# Altium integrated library Capacitors - Ceramic - 0402.IntLib: 4569 symbols (part 34 of 100)
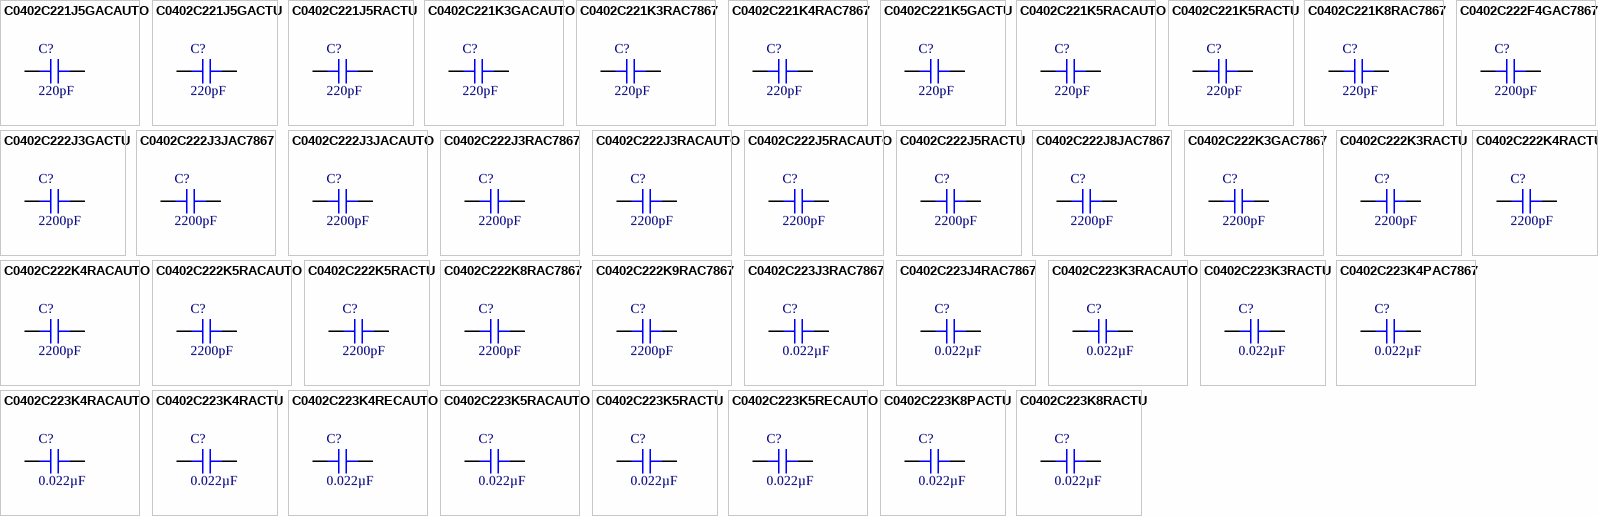
[diagram p147: symbols C0402C221J5GACAUTO to C0402C223K8RACTU]

## C0402C222J5RACTU
designator C?, comment 2200pF
CAP CER 2200PF 50V X7R 0402; Part Number: C0402C222J5RACTU; Manufacturer: KEMET; Tolerance: ±5%; Value: 2200pF; Applications: Bypass, Decoupling; Capacitance: 2200pF; ComponentLink1Description: Datasheet; ComponentLink1URL: https://api.kemet.com/component-edge/download/datasheet/C0402C222J5RACTU.pdf; ComponentLink2Description: DigiKey Link; ComponentLink2URL: http://digikey.com/product-detail/en/kemet/C0402C222J5RACTU/399-7777-1-ND/3471500; Device Package: 0402 (1005 Metric); LastUpdated: 9/2/2020 1:02:03 AM; Lifecycle Status: Active; Minimum Order: 1; Mounting Type: Surface Mount, MLCC; Operating Temperature: -55°C ~ 125°C; Package / Case: 0402 (1005 Metric); Packaging: TapeAndReel; PartId: 11379; Part Status: Active; Price: 0.01; Series: SMD Comm X7R; Size / Dimension: 0.039" L x 0.020" W (1.00mm x 0.50mm); Supplier 1: DigiKey; Supplier Part Number 1: 399-7777-1-ND; Temperature Coefficient: X7R; Thickness (Max): 0.022" (0.55mm); Voltage - Rated: 50V
footprint CAP 0402_1005
pins: 1, 2

## C0402C222J8JAC7867
designator C?, comment 2200pF
CAP CER 2200PF 10V U2J 0402; Part Number: C0402C222J8JAC7867; Manufacturer: KEMET; Tolerance: ±5%; Value: 2200pF; Applications: General Purpose; Capacitance: 2200pF; ComponentLink1Description: Datasheet; ComponentLink1URL: https://api.kemet.com/component-edge/download/datasheet/C0402C222J8JAC7867.pdf; ComponentLink2Description: DigiKey Link; ComponentLink2URL: http://digikey.com/product-detail/en/kemet/C0402C222J8JAC7867/399-13404-1-ND/6123123; Device Package: 0402 (1005 Metric); Features: Low ESL, Low Dissipation Factor; LastUpdated: 9/2/2020 1:02:05 AM; Lifecycle Status: Active; Minimum Order: 1; Mounting Type: Surface Mount, MLCC; Operating Temperature: -55°C ~ 125°C; Package / Case: 0402 (1005 Metric); Packaging: TapeAndReel; PartId: 10405; Part Status: Active; Price: 0.03; Series: SMD Comm U2J; Size / Dimension: 0.039" L x 0.020" W (1.00mm x 0.50mm); Supplier 1: DigiKey; Supplier Part Number 1: 399-13404-1-ND; Temperature Coefficient: U2J; Thickness (Max): 0.022" (0.55mm); Voltage - Rated: 10V
footprint CAP 0402_1005
pins: 1, 2

## C0402C222K3GAC7867
designator C?, comment 2200pF
CAP CER SMD 0402 2200PF 10% COG; Part Number: C0402C222K3GAC7867; Manufacturer: KEMET; Temperature Coefficient: C0G, NP0; Voltage - Rated: 25V; Value: 2200pF; Applications: General Purpose; Capacitance: 2200pF; ComponentLink1Description: Datasheet; ComponentLink1URL: https://api.kemet.com/component-edge/download/datasheet/C0402C222K3GAC7867.pdf; ComponentLink2Description: DigiKey Link; ComponentLink2URL: http://digikey.com/product-detail/en/kemet/C0402C222K3GAC7867/399-17555-1-ND/8572555; Device Package: 0402 (1005 Metric); Features: Low ESL; LastUpdated: 9/2/2020 1:02:13 AM; Lifecycle Status: Active; Minimum Order: 1; Mounting Type: Surface Mount, MLCC; Operating Temperature: -55°C ~ 125°C; Package / Case: 0402 (1005 Metric); Packaging: TapeAndReel; PartId: 6790; Part Status: Active; Price: 0.09; Series: SMD Comm C0G; Size / Dimension: 0.039" L x 0.020" W (1.00mm x 0.50mm); Supplier 1: DigiKey; Supplier Part Number 1: 399-17555-1-ND; Thickness (Max): 0.022" (0.55mm); Tolerance: ±10%
footprint CAP 0402_1005
pins: 1, 2

## C0402C222K3RACTU
designator C?, comment 2200pF
CAP CER 2200PF 25V X7R 0402; Part Number: C0402C222K3RACTU; Manufacturer: KEMET; Tolerance: ±10%; Value: 2200pF; Applications: Bypass, Decoupling; Capacitance: 2200pF; ComponentLink1Description: Datasheet; ComponentLink1URL: https://api.kemet.com/component-edge/download/datasheet/C0402C222K3RACTU.pdf; ComponentLink2Description: DigiKey Link; ComponentLink2URL: http://digikey.com/product-detail/en/kemet/C0402C222K3RACTU/399-1033-1-ND/411308; Device Package: 0402 (1005 Metric); LastUpdated: 9/2/2020 1:02:12 AM; Lifecycle Status: Active; Minimum Order: 1; Mounting Type: Surface Mount, MLCC; Operating Temperature: -55°C ~ 125°C; Package / Case: 0402 (1005 Metric); Packaging: TapeAndReel; PartId: 7418; Part Status: Active; Price: 0.02; Series: SMD Comm X7R; Size / Dimension: 0.039" L x 0.020" W (1.00mm x 0.50mm); Supplier 1: DigiKey; Supplier Part Number 1: 399-1033-1-ND; Temperature Coefficient: X7R; Thickness (Max): 0.022" (0.55mm); Voltage - Rated: 25V
footprint CAP 0402_1005
pins: 1, 2

## C0402C222K4RACAUTO
designator C?, comment 2200pF
CAP CER SMD 0402 2200PF 10% X7R; Part Number: C0402C222K4RACAUTO; Manufacturer: KEMET; Voltage - Rated: 16V; Value: 2200pF; Applications: Automotive, Bypass, Decoupling; Capacitance: 2200pF; ComponentLink1Description: Datasheet; ComponentLink1URL: https://api.kemet.com/component-edge/download/datasheet/C0402C222K4RACAUTO.pdf; ComponentLink2Description: DigiKey Link; ComponentLink2URL: http://digikey.com/product-detail/en/kemet/C0402C222K4RACAUTO/399-17556-1-ND/8572556; Device Package: 0402 (1005 Metric); LastUpdated: 9/2/2020 1:02:07 AM; Lifecycle Status: Active; Minimum Order: 1; Mounting Type: Surface Mount, MLCC; Operating Temperature: -55°C ~ 125°C; Package / Case: 0402 (1005 Metric); Packaging: TapeAndReel; PartId: 9639; Part Status: Active; Price: 0.08; Ratings: AEC-Q200; Series: SMD Auto X7R; Size / Dimension: 0.039" L x 0.020" W (1.00mm x 0.50mm); Supplier 1: DigiKey; Supplier Part Number 1: 399-17556-1-ND; Temperature Coefficient: X7R; Thickness (Max): 0.022" (0.55mm); Tolerance: ±10%
footprint CAP 0402_1005
pins: 1, 2

## C0402C222K4RACTU
designator C?, comment 2200pF
CAP CER 2200PF 16V X7R 0402; Part Number: C0402C222K4RACTU; Manufacturer: KEMET; Tolerance: ±10%; Value: 2200pF; Applications: Bypass, Decoupling; Capacitance: 2200pF; ComponentLink1Description: Datasheet; ComponentLink1URL: https://api.kemet.com/component-edge/download/datasheet/C0402C222K4RACTU.pdf; ComponentLink2Description: DigiKey Link; ComponentLink2URL: http://digikey.com/product-detail/en/kemet/C0402C222K4RACTU/399-7778-1-ND/3471501; Device Package: 0402 (1005 Metric); LastUpdated: 9/2/2020 1:02:23 AM; Lifecycle Status: Active; Minimum Order: 1; Mounting Type: Surface Mount, MLCC; Operating Temperature: -55°C ~ 125°C; Package / Case: 0402 (1005 Metric); Packaging: TapeAndReel; PartId: 2112; Part Status: Active; Price: 0.07; Series: SMD Comm X7R; Size / Dimension: 0.039" L x 0.020" W (1.00mm x 0.50mm); Supplier 1: DigiKey; Supplier Part Number 1: 399-7778-1-ND; Temperature Coefficient: X7R; Thickness (Max): 0.022" (0.55mm); Voltage - Rated: 16V
footprint CAP 0402_1005
pins: 1, 2

## C0402C222K5RACAUTO
designator C?, comment 2200pF
CAP CER 2200PF 50V X7R 0402; Part Number: C0402C222K5RACAUTO; Manufacturer: KEMET; Tolerance: ±10%; Value: 2200pF; Applications: Automotive, Bypass, Decoupling; Capacitance: 2200pF; ComponentLink1Description: Datasheet; ComponentLink1URL: https://api.kemet.com/component-edge/download/datasheet/C0402C222K5RACAUTO.pdf; ComponentLink2Description: DigiKey Link; ComponentLink2URL: http://digikey.com/product-detail/en/kemet/C0402C222K5RACAUTO/399-12981-1-ND/5762263; Device Package: 0402 (1005 Metric); LastUpdated: 9/2/2020 1:02:21 AM; Lifecycle Status: Active; Minimum Order: 1; Mounting Type: Surface Mount, MLCC; Operating Temperature: -55°C ~ 125°C; Package / Case: 0402 (1005 Metric); Packaging: TapeAndReel; PartId: 2961; Part Status: Active; Price: 0.01; Ratings: AEC-Q200; Series: SMD Auto X7R; Size / Dimension: 0.039" L x 0.020" W (1.00mm x 0.50mm); Supplier 1: DigiKey; Supplier Part Number 1: 399-12981-1-ND; Temperature Coefficient: X7R; Thickness (Max): 0.022" (0.55mm); Voltage - Rated: 50V
footprint CAP 0402_1005
pins: 1, 2

## C0402C222K5RACTU
designator C?, comment 2200pF
CAP CER 2200PF 50V X7R 0402; Part Number: C0402C222K5RACTU; Manufacturer: KEMET; Tolerance: ±10%; Value: 2200pF; Applications: Bypass, Decoupling; Capacitance: 2200pF; ComponentLink1Description: Datasheet; ComponentLink1URL: https://api.kemet.com/component-edge/download/datasheet/C0402C222K5RACTU.pdf; ComponentLink2Description: DigiKey Link; ComponentLink2URL: http://digikey.com/product-detail/en/kemet/C0402C222K5RACTU/399-3068-1-ND/501997; Device Package: 0402 (1005 Metric); LastUpdated: 9/2/2020 1:02:19 AM; Lifecycle Status: Active; Minimum Order: 1; Mounting Type: Surface Mount, MLCC; Operating Temperature: -55°C ~ 125°C; Package / Case: 0402 (1005 Metric); Packaging: TapeAndReel; PartId: 4034; Part Status: Active; Price: 0.01; Series: SMD Comm X7R; Size / Dimension: 0.039" L x 0.020" W (1.00mm x 0.50mm); Supplier 1: DigiKey; Supplier Part Number 1: 399-3068-1-ND; Temperature Coefficient: X7R; Thickness (Max): 0.022" (0.55mm); Voltage - Rated: 50V
footprint CAP 0402_1005
pins: 1, 2

## C0402C222K8RAC7867
designator C?, comment 2200pF
CAP CER 2200PF 10V X7R 0402; Part Number: C0402C222K8RAC7867; Manufacturer: KEMET; Tolerance: ±10%; Value: 2200pF; Applications: Bypass, Decoupling; Capacitance: 2200pF; ComponentLink1Description: Datasheet; ComponentLink1URL: https://api.kemet.com/component-edge/download/datasheet/C0402C222K8RACTU.pdf; ComponentLink2Description: DigiKey Link; ComponentLink2URL: http://digikey.com/product-detail/en/kemet/C0402C222K8RAC7867/399-14434-1-ND/7103726; Device Package: 0402 (1005 Metric); LastUpdated: 9/2/2020 1:02:07 AM; Lifecycle Status: Active; Minimum Order: 1; Mounting Type: Surface Mount, MLCC; Operating Temperature: -55°C ~ 125°C; Package / Case: 0402 (1005 Metric); Packaging: TapeAndReel; PartId: 9667; Part Status: Active; Price: 0.08; Series: SMD Comm X7R; Size / Dimension: 0.039" L x 0.020" W (1.00mm x 0.50mm); Supplier 1: DigiKey; Supplier Part Number 1: 399-14434-1-ND; Temperature Coefficient: X7R; Thickness (Max): 0.022" (0.55mm); Voltage - Rated: 10V
footprint CAP 0402_1005
pins: 1, 2

## C0402C222K9RAC7867
designator C?, comment 2200pF
CAP CER 2200PF 6.3V X7R 0402; Part Number: C0402C222K9RAC7867; Manufacturer: KEMET; Tolerance: ±10%; Value: 2200pF; Applications: Bypass, Decoupling; Capacitance: 2200pF; ComponentLink1Description: Datasheet; ComponentLink1URL: https://api.kemet.com/component-edge/download/datasheet/C0402C222K9RAC7867.pdf; ComponentLink2Description: DigiKey Link; ComponentLink2URL: http://digikey.com/product-detail/en/kemet/C0402C222K9RAC7867/399-14893-1-ND/7382442; Device Package: 0402 (1005 Metric); LastUpdated: 9/2/2020 1:02:14 AM; Lifecycle Status: Active; Minimum Order: 1; Mounting Type: Surface Mount, MLCC; Operating Temperature: -55°C ~ 125°C; Package / Case: 0402 (1005 Metric); Packaging: TapeAndReel; PartId: 6600; Part Status: Active; Price: 0.08; Series: SMD Comm X7R; Size / Dimension: 0.039" L x 0.020" W (1.00mm x 0.50mm); Supplier 1: DigiKey; Supplier Part Number 1: 399-14893-1-ND; Temperature Coefficient: X7R; Thickness (Max): 0.022" (0.55mm); Voltage - Rated: 6.3V
footprint CAP 0402_1005
pins: 1, 2

## C0402C223J3RAC7867
designator C?, comment 0.022µF
CAP CER 0.022UF 25V X7R 0402; Part Number: C0402C223J3RAC7867; Manufacturer: KEMET; Tolerance: ±5%; Value: 0.022µF; Applications: Bypass, Decoupling; Capacitance: 0.022µF; ComponentLink1Description: Datasheet; ComponentLink1URL: https://api.kemet.com/component-edge/download/datasheet/C0402C223J3RAC7867.pdf; ComponentLink2Description: DigiKey Link; ComponentLink2URL: http://digikey.com/product-detail/en/kemet/C0402C223J3RAC7867/399-9952-1-ND/3736951; Device Package: 0402 (1005 Metric); LastUpdated: 9/2/2020 1:02:15 AM; Lifecycle Status: Active; Minimum Order: 1; Mounting Type: Surface Mount, MLCC; Operating Temperature: -55°C ~ 125°C; Package / Case: 0402 (1005 Metric); Packaging: TapeAndReel; PartId: 5988; Part Status: Active; Price: 0.05; Series: SMD Comm X7R; Size / Dimension: 0.039" L x 0.020" W (1.00mm x 0.50mm); Supplier 1: DigiKey; Supplier Part Number 1: 399-9952-1-ND; Temperature Coefficient: X7R; Thickness (Max): 0.022" (0.55mm); Voltage - Rated: 25V
footprint CAP 0402_1005
pins: 1, 2

## C0402C223J4RAC7867
designator C?, comment 0.022µF
CAP CER 0.022UF 16V X7R 0402; Part Number: C0402C223J4RAC7867; Manufacturer: KEMET; Tolerance: ±5%; Value: 0.022µF; Applications: Bypass, Decoupling; Capacitance: 0.022µF; ComponentLink1Description: Datasheet; ComponentLink1URL: https://api.kemet.com/component-edge/download/datasheet/C0402C223J4RACTU.pdf; ComponentLink2Description: DigiKey Link; ComponentLink2URL: http://digikey.com/product-detail/en/kemet/C0402C223J4RAC7867/399-14435-1-ND/7103727; Device Package: 0402 (1005 Metric); LastUpdated: 9/2/2020 1:02:08 AM; Lifecycle Status: Active; Minimum Order: 1; Mounting Type: Surface Mount, MLCC; Operating Temperature: -55°C ~ 125°C; Package / Case: 0402 (1005 Metric); Packaging: TapeAndReel; PartId: 9349; Part Status: Active; Price: 0.11; Series: SMD Comm X7R; Size / Dimension: 0.039" L x 0.020" W (1.00mm x 0.50mm); Supplier 1: DigiKey; Supplier Part Number 1: 399-14435-1-ND; Temperature Coefficient: X7R; Thickness (Max): 0.022" (0.55mm); Voltage - Rated: 16V
footprint CAP 0402_1005
pins: 1, 2

## C0402C223K3RACAUTO
designator C?, comment 0.022µF
CAP CER 0.022UF 25V X7R 0402; Part Number: C0402C223K3RACAUTO; Manufacturer: KEMET; Tolerance: ±10%; Value: 0.022µF; Applications: Automotive, Bypass, Decoupling; Capacitance: 0.022µF; ComponentLink1Description: Datasheet; ComponentLink1URL: https://api.kemet.com/component-edge/download/datasheet/C0402C223K3RACAUTO.pdf; ComponentLink2Description: DigiKey Link; ComponentLink2URL: http://digikey.com/product-detail/en/kemet/C0402C223K3RACAUTO/399-16012-1-ND/7516511; Device Package: 0402 (1005 Metric); LastUpdated: 9/2/2020 1:02:24 AM; Lifecycle Status: Active; Minimum Order: 1; Mounting Type: Surface Mount, MLCC; Operating Temperature: -55°C ~ 125°C; Package / Case: 0402 (1005 Metric); Packaging: TapeAndReel; PartId: 2093; Part Status: Active; Price: 0.02; Ratings: AEC-Q200; Series: SMD Auto X7R; Size / Dimension: 0.039" L x 0.020" W (1.00mm x 0.50mm); Supplier 1: DigiKey; Supplier Part Number 1: 399-16012-1-ND; Temperature Coefficient: X7R; Thickness (Max): 0.022" (0.55mm); Voltage - Rated: 25V
footprint CAP 0402_1005
pins: 1, 2

## C0402C223K3RACTU
designator C?, comment 0.022µF
CAP CER 0.022UF 25V X7R 0402; Part Number: C0402C223K3RACTU; Manufacturer: KEMET; Tolerance: ±10%; Value: 0.022µF; Applications: Bypass, Decoupling; Capacitance: 0.022µF; ComponentLink1Description: Datasheet; ComponentLink1URL: https://api.kemet.com/component-edge/download/datasheet/C0402C223K3RACTU.pdf; ComponentLink2Description: DigiKey Link; ComponentLink2URL: http://digikey.com/product-detail/en/kemet/C0402C223K3RACTU/399-7779-1-ND/3471502; Device Package: 0402 (1005 Metric); LastUpdated: 9/2/2020 1:02:10 AM; Lifecycle Status: Active; Minimum Order: 1; Mounting Type: Surface Mount, MLCC; Operating Temperature: -55°C ~ 125°C; Package / Case: 0402 (1005 Metric); Packaging: TapeAndReel; PartId: 8378; Part Status: Active; Price: 0.01; Series: SMD Comm X7R; Size / Dimension: 0.039" L x 0.020" W (1.00mm x 0.50mm); Supplier 1: DigiKey; Supplier Part Number 1: 399-7779-1-ND; Temperature Coefficient: X7R; Thickness (Max): 0.022" (0.55mm); Voltage - Rated: 25V
footprint CAP 0402_1005
pins: 1, 2

## C0402C223K4PAC7867
designator C?, comment 0.022µF
CAP CER 0.022UF 16V X5R 0402; Part Number: C0402C223K4PAC7867; Manufacturer: KEMET; Tolerance: ±10%; Value: 0.022µF; Applications: General Purpose; Capacitance: 0.022µF; ComponentLink1Description: Datasheet; ComponentLink1URL: https://api.kemet.com/component-edge/download/datasheet/C0402C223K4PAC7867.pdf; ComponentLink2Description: DigiKey Link; ComponentLink2URL: http://digikey.com/product-detail/en/kemet/C0402C223K4PAC7867/399-14894-1-ND/7382443; Device Package: 0402 (1005 Metric); LastUpdated: 9/2/2020 1:02:20 AM; Lifecycle Status: Active; Minimum Order: 1; Mounting Type: Surface Mount, MLCC; Operating Temperature: -55°C ~ 85°C; Package / Case: 0402 (1005 Metric); Packaging: TapeAndReel; PartId: 3769; Part Status: Active; Price: 0.09; Series: SMD Comm X5R; Size / Dimension: 0.039" L x 0.020" W (1.00mm x 0.50mm); Supplier 1: DigiKey; Supplier Part Number 1: 399-14894-1-ND; Temperature Coefficient: X5R; Thickness (Max): 0.022" (0.55mm); Voltage - Rated: 16V
footprint CAP 0402_1005
pins: 1, 2

## C0402C223K4RACAUTO
designator C?, comment 0.022µF
CAP CER 0.022UF 16V X7R 0402; Part Number: C0402C223K4RACAUTO; Manufacturer: KEMET; Tolerance: ±10%; Value: 0.022µF; Applications: Automotive, Bypass, Decoupling; Capacitance: 0.022µF; ComponentLink1Description: Datasheet; ComponentLink1URL: https://api.kemet.com/component-edge/download/specsheet/C0402C223K4RACAUTO.pdf; ComponentLink2Description: DigiKey Link; ComponentLink2URL: http://digikey.com/product-detail/en/kemet/C0402C223K4RACAUTO/399-6834-1-ND/3314349; Device Package: 0402 (1005 Metric); LastUpdated: 9/2/2020 1:02:13 AM; Lifecycle Status: Active; Minimum Order: 1; Mounting Type: Surface Mount, MLCC; Operating Temperature: -55°C ~ 125°C; Package / Case: 0402 (1005 Metric); Packaging: TapeAndReel; PartId: 6809; Part Status: Active; Price: 0.09; Ratings: AEC-Q200; Series: SMD Auto X7R; Size / Dimension: 0.039" L x 0.020" W (1.00mm x 0.50mm); Supplier 1: DigiKey; Supplier Part Number 1: 399-6834-1-ND; Temperature Coefficient: X7R; Thickness (Max): 0.022" (0.55mm); Voltage - Rated: 16V
footprint CAP 0402_1005
pins: 1, 2

## C0402C223K4RACTU
designator C?, comment 0.022µF
CAP CER 0.022UF 16V X7R 0402; Part Number: C0402C223K4RACTU; Manufacturer: KEMET; Tolerance: ±10%; Value: 0.022µF; Applications: Bypass, Decoupling; Capacitance: 0.022µF; ComponentLink1Description: Datasheet; ComponentLink1URL: https://api.kemet.com/component-edge/download/datasheet/C0402C223K4RACTU.pdf; ComponentLink2Description: DigiKey Link; ComponentLink2URL: http://digikey.com/product-detail/en/kemet/C0402C223K4RACTU/399-3518-1-ND/789658; Device Package: 0402 (1005 Metric); LastUpdated: 9/2/2020 1:02:13 AM; Lifecycle Status: Active; Minimum Order: 1; Mounting Type: Surface Mount, MLCC; Operating Temperature: -55°C ~ 125°C; Package / Case: 0402 (1005 Metric); Packaging: TapeAndReel; PartId: 6774; Part Status: Active; Price: 0.09; Series: SMD Comm X7R; Size / Dimension: 0.039" L x 0.020" W (1.00mm x 0.50mm); Supplier 1: DigiKey; Supplier Part Number 1: 399-3518-1-ND; Temperature Coefficient: X7R; Thickness (Max): 0.022" (0.55mm); Voltage - Rated: 16V
footprint CAP 0402_1005
pins: 1, 2

## C0402C223K4RECAUTO
designator C?, comment 0.022µF
CAP CER 0402 22NF 16V X7R 10%; Part Number: C0402C223K4RECAUTO; Manufacturer: KEMET; Value: 0.022µF; Applications: Automotive, ESD Protection; Capacitance: 0.022µF; ComponentLink1Description: Datasheet; ComponentLink1URL: https://api.kemet.com/component-edge/download/datasheet/C0402C223K4RECAUTO.pdf; ComponentLink2Description: DigiKey Link; ComponentLink2URL: http://digikey.com/product-detail/en/kemet/C0402C223K4RECAUTO/399-17877-1-ND/8640544; Device Package: 0402 (1005 Metric); LastUpdated: 9/2/2020 1:01:53 AM; Lifecycle Status: Active; Minimum Order: 1; Mounting Type: Surface Mount, MLCC; Operating Temperature: -55°C ~ 125°C; Package / Case: 0402 (1005 Metric); Packaging: TapeAndReel; PartId: 12106; Part Status: Active; Price: 0.02; Ratings: AEC-Q200; Series: ESD SMD Auto X7R; Size / Dimension: 0.039" L x 0.020" W (1.00mm x 0.50mm); Supplier 1: DigiKey; Supplier Part Number 1: 399-17877-1-ND; Temperature Coefficient: X7R; Thickness (Max): 0.022" (0.55mm); Tolerance: ±10%; Voltage - Rated: 16V
footprint CAP 0402_1005
pins: 1, 2

## C0402C223K5RACAUTO
designator C?, comment 0.022µF
CAP CER 0.022UF 50V X7R 0402; Part Number: C0402C223K5RACAUTO; Manufacturer: KEMET; Tolerance: ±10%; Value: 0.022µF; Applications: Automotive, Bypass, Decoupling; Capacitance: 0.022µF; ComponentLink1Description: Datasheet; ComponentLink1URL: https://api.kemet.com/component-edge/download/datasheet/C0402C223K5RACAUTO.pdf; ComponentLink2Description: DigiKey Link; ComponentLink2URL: http://digikey.com/product-detail/en/kemet/C0402C223K5RACAUTO/399-16022-1-ND/7516521; Device Package: 0402 (1005 Metric); LastUpdated: 9/2/2020 1:02:24 AM; Lifecycle Status: Active; Minimum Order: 1; Mounting Type: Surface Mount, MLCC; Operating Temperature: -55°C ~ 125°C; Package / Case: 0402 (1005 Metric); Packaging: TapeAndReel; PartId: 2091; Part Status: Active; Price: 0.02; Ratings: AEC-Q200; Series: SMD Auto X7R; Size / Dimension: 0.039" L x 0.020" W (1.00mm x 0.50mm); Supplier 1: DigiKey; Supplier Part Number 1: 399-16022-1-ND; Temperature Coefficient: X7R; Thickness (Max): 0.022" (0.55mm); Voltage - Rated: 50V
footprint CAP 0402_1005
pins: 1, 2

## C0402C223K5RACTU
designator C?, comment 0.022µF
CAP CER 0.022UF 50V X7R 0402; Part Number: C0402C223K5RACTU; Manufacturer: KEMET; Tolerance: ±10%; Value: 0.022µF; Applications: Bypass, Decoupling; Capacitance: 0.022µF; ComponentLink1Description: Datasheet; ComponentLink1URL: https://api.kemet.com/component-edge/download/datasheet/C0402C223K5RACTU.pdf; ComponentLink2Description: DigiKey Link; ComponentLink2URL: http://digikey.com/product-detail/en/kemet/C0402C223K5RACTU/399-7780-1-ND/3471503; Device Package: 0402 (1005 Metric); LastUpdated: 9/2/2020 1:02:22 AM; Lifecycle Status: Active; Minimum Order: 1; Mounting Type: Surface Mount, MLCC; Operating Temperature: -55°C ~ 125°C; Package / Case: 0402 (1005 Metric); Packaging: TapeAndReel; PartId: 2931; Part Status: Active; Price: 0.01; Series: SMD Comm X7R; Size / Dimension: 0.039" L x 0.020" W (1.00mm x 0.50mm); Supplier 1: DigiKey; Supplier Part Number 1: 399-7780-1-ND; Temperature Coefficient: X7R; Thickness (Max): 0.022" (0.55mm); Voltage - Rated: 50V
footprint CAP 0402_1005
pins: 1, 2

## C0402C223K5RECAUTO
designator C?, comment 0.022µF
CAP CER 0402 22NF 50V X7R 10%; Part Number: C0402C223K5RECAUTO; Manufacturer: KEMET; Value: 0.022µF; Applications: Automotive, ESD Protection; Capacitance: 0.022µF; ComponentLink1Description: Datasheet; ComponentLink1URL: https://api.kemet.com/component-edge/download/datasheet/C0402C223K5RECAUTO.pdf; ComponentLink2Description: DigiKey Link; ComponentLink2URL: http://digikey.com/product-detail/en/kemet/C0402C223K5RECAUTO/399-17166-1-ND/8563707; Device Package: 0402 (1005 Metric); LastUpdated: 9/2/2020 1:02:25 AM; Lifecycle Status: Active; Minimum Order: 1; Mounting Type: Surface Mount, MLCC; Operating Temperature: -55°C ~ 125°C; Package / Case: 0402 (1005 Metric); Packaging: TapeAndReel; PartId: 1729; Part Status: Active; Price: 0.02; Ratings: AEC-Q200; Series: ESD SMD Auto X7R; Size / Dimension: 0.039" L x 0.020" W (1.00mm x 0.50mm); Supplier 1: DigiKey; Supplier Part Number 1: 399-17166-1-ND; Temperature Coefficient: X7R; Thickness (Max): 0.022" (0.55mm); Tolerance: ±10%; Voltage - Rated: 50V
footprint CAP 0402_1005
pins: 1, 2

## C0402C223K8PACTU
designator C?, comment 0.022µF
CAP CER 0.022UF 10V X5R 0402; Part Number: C0402C223K8PACTU; Manufacturer: KEMET; Tolerance: ±10%; Value: 0.022µF; Applications: General Purpose; Capacitance: 0.022µF; ComponentLink1Description: Datasheet; ComponentLink1URL: https://api.kemet.com/component-edge/download/datasheet/C0402C223K8PACTU.pdf; ComponentLink2Description: DigiKey Link; ComponentLink2URL: http://digikey.com/product-detail/en/kemet/C0402C223K8PACTU/399-3015-1-ND/447591; Device Package: 0402 (1005 Metric); LastUpdated: 9/2/2020 1:02:15 AM; Lifecycle Status: Active; Minimum Order: 1; Mounting Type: Surface Mount, MLCC; Operating Temperature: -55°C ~ 85°C; Package / Case: 0402 (1005 Metric); Packaging: TapeAndReel; PartId: 5982; Part Status: Active; Price: 0.05; Series: SMD Comm X5R; Size / Dimension: 0.039" L x 0.020" W (1.00mm x 0.50mm); Supplier 1: DigiKey; Supplier Part Number 1: 399-3015-1-ND; Temperature Coefficient: X5R; Thickness (Max): 0.022" (0.55mm); Voltage - Rated: 10V
footprint CAP 0402_1005
pins: 1, 2

## C0402C223K8RACTU
designator C?, comment 0.022µF
CAP CER 0.022UF 10V X7R 0402; Part Number: C0402C223K8RACTU; Manufacturer: KEMET; Tolerance: ±10%; Value: 0.022µF; Applications: Bypass, Decoupling; Capacitance: 0.022µF; ComponentLink1Description: Datasheet; ComponentLink1URL: https://api.kemet.com/component-edge/download/datasheet/C0402C223K8RACTU.pdf; ComponentLink2Description: DigiKey Link; ComponentLink2URL: http://digikey.com/product-detail/en/kemet/C0402C223K8RACTU/399-4884-1-ND/1090879; Device Package: 0402 (1005 Metric); LastUpdated: 9/2/2020 1:02:23 AM; Lifecycle Status: Active; Minimum Order: 1; Mounting Type: Surface Mount, MLCC; Operating Temperature: -55°C ~ 125°C; Package / Case: 0402 (1005 Metric); Packaging: TapeAndReel; PartId: 2117; Part Status: Active; Price: 0.07; Series: SMD Comm X7R; Size / Dimension: 0.039" L x 0.020" W (1.00mm x 0.50mm); Supplier 1: DigiKey; Supplier Part Number 1: 399-4884-1-ND; Temperature Coefficient: X7R; Thickness (Max): 0.022" (0.55mm); Voltage - Rated: 10V
footprint CAP 0402_1005
pins: 1, 2

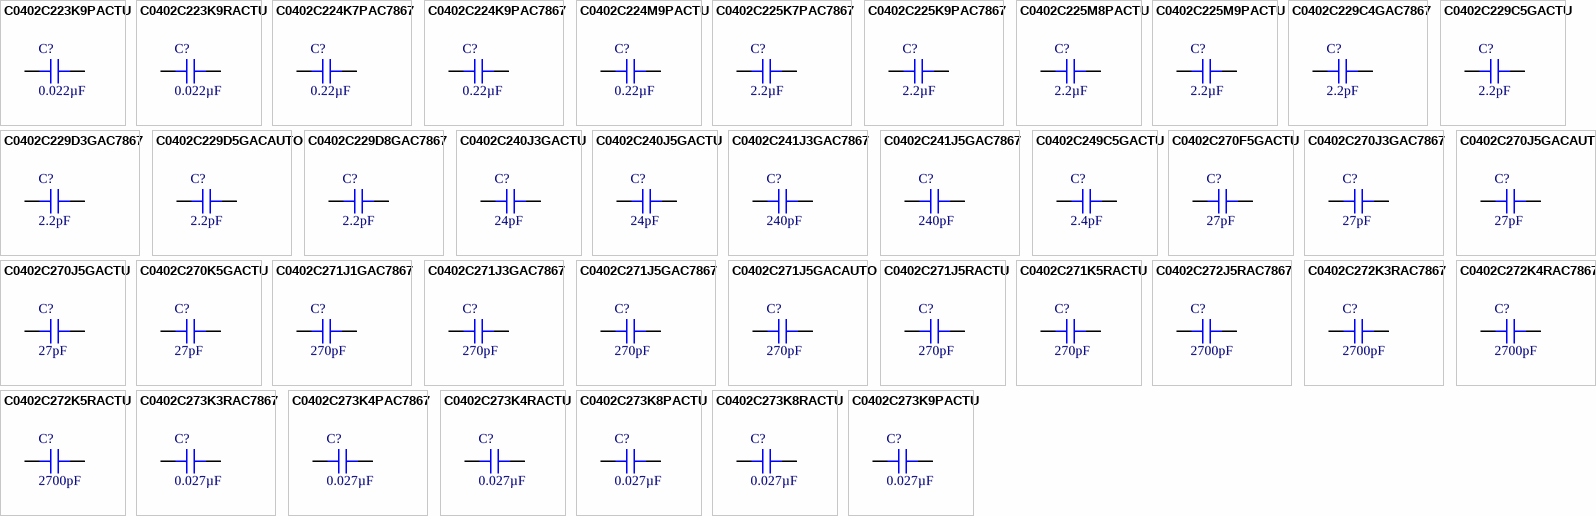
[diagram p39: symbols C0402C223K9PACTU to C0402C273K9PACTU]

## C0402C223K9PACTU
designator C?, comment 0.022µF
CAP CER 0.022UF 6.3V X5R 0402; Part Number: C0402C223K9PACTU; Manufacturer: KEMET; Tolerance: ±10%; Value: 0.022µF; Applications: General Purpose; Capacitance: 0.022µF; ComponentLink1Description: Datasheet; ComponentLink1URL: https://api.kemet.com/component-edge/download/datasheet/C0402C223K9PACTU.pdf; ComponentLink2Description: DigiKey Link; ComponentLink2URL: http://digikey.com/product-detail/en/kemet/C0402C223K9PACTU/399-3014-1-ND/447592; Device Package: 0402 (1005 Metric); LastUpdated: 9/2/2020 1:01:32 AM; Lifecycle Status: Active; Minimum Order: 1; Mounting Type: Surface Mount, MLCC; Operating Temperature: -55°C ~ 85°C; Package / Case: 0402 (1005 Metric); Packaging: TapeAndReel; PartId: 12804; Part Status: Active; Price: 0.05; Series: SMD Comm X5R; Size / Dimension: 0.039" L x 0.020" W (1.00mm x 0.50mm); Supplier 1: DigiKey; Supplier Part Number 1: 399-3014-1-ND; Temperature Coefficient: X5R; Thickness (Max): 0.022" (0.55mm); Voltage - Rated: 6.3V
footprint CAP 0402_1005
pins: 1, 2

## C0402C223K9RACTU
designator C?, comment 0.022µF
CAP CER 0.022UF 6.3V X7R 0402; Part Number: C0402C223K9RACTU; Manufacturer: KEMET; Tolerance: ±10%; Value: 0.022µF; Applications: Bypass, Decoupling; Capacitance: 0.022µF; ComponentLink1Description: Datasheet; ComponentLink1URL: https://api.kemet.com/component-edge/download/datasheet/C0402C223K9RACTU.pdf; ComponentLink2Description: DigiKey Link; ComponentLink2URL: http://digikey.com/product-detail/en/kemet/C0402C223K9RACTU/399-4885-1-ND/1090880; Device Package: 0402 (1005 Metric); LastUpdated: 9/2/2020 1:02:07 AM; Lifecycle Status: Active; Minimum Order: 1; Mounting Type: Surface Mount, MLCC; Operating Temperature: -55°C ~ 125°C; Package / Case: 0402 (1005 Metric); Packaging: TapeAndReel; PartId: 9653; Part Status: Active; Price: 0.08; Series: SMD Comm X7R; Size / Dimension: 0.039" L x 0.020" W (1.00mm x 0.50mm); Supplier 1: DigiKey; Supplier Part Number 1: 399-4885-1-ND; Temperature Coefficient: X7R; Thickness (Max): 0.022" (0.55mm); Voltage - Rated: 6.3V
footprint CAP 0402_1005
pins: 1, 2

## C0402C224K7PAC7867
designator C?, comment 0.22µF
CAP CER 0.22UF 4V X5R 0402; Part Number: C0402C224K7PAC7867; Manufacturer: KEMET; Tolerance: ±10%; Value: 0.22µF; Applications: General Purpose; Capacitance: 0.22µF; ComponentLink1Description: Datasheet; ComponentLink1URL: https://api.kemet.com/component-edge/download/datasheet/C0402C224K7PAC7867.pdf; ComponentLink2Description: DigiKey Link; ComponentLink2URL: http://digikey.com/product-detail/en/kemet/C0402C224K7PAC7867/399-14895-1-ND/7382444; Device Package: 0402 (1005 Metric); LastUpdated: 9/2/2020 1:01:20 AM; Lifecycle Status: Active; Minimum Order: 1; Mounting Type: Surface Mount, MLCC; Operating Temperature: -55°C ~ 85°C; Package / Case: 0402 (1005 Metric); Packaging: TapeAndReel; PartId: 13236; Part Status: Active; Price: 0.09; Series: SMD Comm X5R; Size / Dimension: 0.039" L x 0.020" W (1.00mm x 0.50mm); Supplier 1: DigiKey; Supplier Part Number 1: 399-14895-1-ND; Temperature Coefficient: X5R; Thickness (Max): 0.022" (0.55mm); Voltage - Rated: 4V
footprint CAP 0402_1005
pins: 1, 2

## C0402C224K9PAC7867
designator C?, comment 0.22µF
CAP CER 0.22UF 6.3V X5R 0402; Part Number: C0402C224K9PAC7867; Manufacturer: KEMET; Tolerance: ±10%; Value: 0.22µF; Applications: General Purpose; Capacitance: 0.22µF; ComponentLink1Description: Datasheet; ComponentLink1URL: https://api.kemet.com/component-edge/download/datasheet/C0402C224K9PACTU.pdf; ComponentLink2Description: DigiKey Link; ComponentLink2URL: http://digikey.com/product-detail/en/kemet/C0402C224K9PAC7867/399-4886-1-ND/1090881; Device Package: 0402 (1005 Metric); LastUpdated: 9/2/2020 1:02:19 AM; Lifecycle Status: Active; Minimum Order: 1; Mounting Type: Surface Mount, MLCC; Operating Temperature: -55°C ~ 85°C; Package / Case: 0402 (1005 Metric); Packaging: TapeAndReel; PartId: 4059; Part Status: Active; Price: 0.01; Series: SMD Comm X5R; Size / Dimension: 0.039" L x 0.020" W (1.00mm x 0.50mm); Supplier 1: DigiKey; Supplier Part Number 1: 399-4886-1-ND; Temperature Coefficient: X5R; Thickness (Max): 0.022" (0.55mm); Voltage - Rated: 6.3V
footprint CAP 0402_1005
pins: 1, 2

## C0402C224M9PACTU
designator C?, comment 0.22µF
CAP CER 0.22UF 6.3V X5R 0402; Part Number: C0402C224M9PACTU; Manufacturer: KEMET; Tolerance: ±20%; Value: 0.22µF; Applications: General Purpose; Capacitance: 0.22µF; ComponentLink1Description: Datasheet; ComponentLink1URL: https://api.kemet.com/component-edge/download/datasheet/C0402C224M9PACTU.pdf; ComponentLink2Description: DigiKey Link; ComponentLink2URL: http://digikey.com/product-detail/en/kemet/C0402C224M9PACTU/399-4887-1-ND/1090882; Device Package: 0402 (1005 Metric); LastUpdated: 9/2/2020 1:02:13 AM; Lifecycle Status: Active; Minimum Order: 1; Mounting Type: Surface Mount, MLCC; Operating Temperature: -55°C ~ 85°C; Package / Case: 0402 (1005 Metric); Packaging: TapeAndReel; PartId: 6771; Part Status: Active; Price: 0.09; Series: SMD Comm X5R; Size / Dimension: 0.039" L x 0.020" W (1.00mm x 0.50mm); Supplier 1: DigiKey; Supplier Part Number 1: 399-4887-1-ND; Temperature Coefficient: X5R; Thickness (Max): 0.022" (0.55mm); Voltage - Rated: 6.3V
footprint CAP 0402_1005
pins: 1, 2

## C0402C225K7PAC7867
designator C?, comment 2.2µF
CAP CER 2.2UF 4V X5R 0402; Part Number: C0402C225K7PAC7867; Manufacturer: KEMET; Tolerance: ±10%; Value: 2.2µF; Applications: General Purpose; Capacitance: 2.2µF; ComponentLink1Description: Datasheet; ComponentLink1URL: https://api.kemet.com/component-edge/download/datasheet/C0402C225K7PAC7867.pdf; ComponentLink2Description: DigiKey Link; ComponentLink2URL: http://digikey.com/product-detail/en/kemet/C0402C225K7PAC7867/399-14896-1-ND/7382445; Device Package: 0402 (1005 Metric); LastUpdated: 9/2/2020 1:02:13 AM; Lifecycle Status: Active; Minimum Order: 1; Mounting Type: Surface Mount, MLCC; Operating Temperature: -55°C ~ 85°C; Package / Case: 0402 (1005 Metric); Packaging: TapeAndReel; PartId: 6785; Part Status: Active; Price: 0.09; Series: SMD Comm X5R; Size / Dimension: 0.039" L x 0.020" W (1.00mm x 0.50mm); Supplier 1: DigiKey; Supplier Part Number 1: 399-14896-1-ND; Temperature Coefficient: X5R; Thickness (Max): 0.022" (0.55mm); Voltage - Rated: 4V
footprint CAP 0402_1005
pins: 1, 2

## C0402C225K9PAC7867
designator C?, comment 2.2µF
CAP CER 2.2UF 6.3V X5R 0402; Part Number: C0402C225K9PAC7867; Manufacturer: KEMET; Tolerance: ±10%; Value: 2.2µF; Applications: General Purpose; Capacitance: 2.2µF; ComponentLink1Description: Datasheet; ComponentLink1URL: https://api.kemet.com/component-edge/download/datasheet/C0402C225K9PACTU.pdf; ComponentLink2Description: DigiKey Link; ComponentLink2URL: http://digikey.com/product-detail/en/kemet/C0402C225K9PAC7867/399-11617-1-ND/4876510; Device Package: 0402 (1005 Metric); LastUpdated: 9/2/2020 1:02:07 AM; Lifecycle Status: Active; Minimum Order: 1; Mounting Type: Surface Mount, MLCC; Operating Temperature: -55°C ~ 85°C; Package / Case: 0402 (1005 Metric); Packaging: TapeAndReel; PartId: 9629; Part Status: Active; Price: 0.03; Series: SMD Comm X5R; Size / Dimension: 0.039" L x 0.020" W (1.00mm x 0.50mm); Supplier 1: DigiKey; Supplier Part Number 1: 399-11617-1-ND; Temperature Coefficient: X5R; Thickness (Max): 0.022" (0.55mm); Voltage - Rated: 6.3V
footprint CAP 0402_1005
pins: 1, 2

## C0402C225M8PACTU
designator C?, comment 2.2µF
CAP CER 2.2UF 10V X5R 0402; Part Number: C0402C225M8PACTU; Manufacturer: KEMET; Tolerance: ±20%; Value: 2.2µF; Applications: General Purpose; Capacitance: 2.2µF; ComponentLink1Description: Datasheet; ComponentLink1URL: https://api.kemet.com/component-edge/download/datasheet/C0402C225M8PACTU.pdf; ComponentLink2Description: DigiKey Link; ComponentLink2URL: http://digikey.com/product-detail/en/kemet/C0402C225M8PACTU/399-7375-1-ND/3317409; Device Package: 0402 (1005 Metric); LastUpdated: 9/2/2020 1:02:17 AM; Lifecycle Status: Active; Minimum Order: 1; Mounting Type: Surface Mount, MLCC; Operating Temperature: -55°C ~ 85°C; Package / Case: 0402 (1005 Metric); Packaging: TapeAndReel; PartId: 4888; Part Status: Active; Price: 0.04; Series: SMD Comm X5R; Size / Dimension: 0.039" L x 0.020" W (1.00mm x 0.50mm); Supplier 1: DigiKey; Supplier Part Number 1: 399-7375-1-ND; Temperature Coefficient: X5R; Thickness (Max): 0.022" (0.55mm); Voltage - Rated: 10V
footprint CAP 0402_1005
pins: 1, 2

## C0402C225M9PACTU
designator C?, comment 2.2µF
CAP CER 2.2UF 6.3V X5R 0402; Part Number: C0402C225M9PACTU; Manufacturer: KEMET; Tolerance: ±20%; Value: 2.2µF; Applications: General Purpose; Capacitance: 2.2µF; ComponentLink1Description: Datasheet; ComponentLink1URL: https://api.kemet.com/component-edge/download/datasheet/C0402C225M9PACTU.pdf; ComponentLink2Description: DigiKey Link; ComponentLink2URL: http://digikey.com/product-detail/en/kemet/C0402C225M9PACTU/399-7781-1-ND/3471504; Device Package: 0402 (1005 Metric); LastUpdated: 9/2/2020 1:01:32 AM; Lifecycle Status: Active; Minimum Order: 1; Mounting Type: Surface Mount, MLCC; Operating Temperature: -55°C ~ 85°C; Package / Case: 0402 (1005 Metric); Packaging: TapeAndReel; PartId: 12808; Part Status: Active; Price: 0.05; Series: SMD Comm X5R; Size / Dimension: 0.039" L x 0.020" W (1.00mm x 0.50mm); Supplier 1: DigiKey; Supplier Part Number 1: 399-7781-1-ND; Temperature Coefficient: X5R; Thickness (Max): 0.022" (0.55mm); Voltage - Rated: 6.3V
footprint CAP 0402_1005
pins: 1, 2

## C0402C229C4GAC7867
designator C?, comment 2.2pF
CAP CER 2.2PF 16V NP0 0402; Part Number: C0402C229C4GAC7867; Manufacturer: KEMET; Temperature Coefficient: C0G, NP0; Tolerance: ±0.25pF; Value: 2.2pF; Applications: General Purpose; Capacitance: 2.2pF; ComponentLink1Description: Datasheet; ComponentLink1URL: https://api.kemet.com/component-edge/download/datasheet/C0402C229C4GACTU.pdf; ComponentLink2Description: DigiKey Link; ComponentLink2URL: http://digikey.com/product-detail/en/kemet/C0402C229C4GAC7867/399-14436-1-ND/7103728; Device Package: 0402 (1005 Metric); Features: Low ESL; LastUpdated: 9/2/2020 1:01:21 AM; Lifecycle Status: Active; Minimum Order: 1; Mounting Type: Surface Mount, MLCC; Operating Temperature: -55°C ~ 125°C; Package / Case: 0402 (1005 Metric); Packaging: TapeAndReel; PartId: 13197; Part Status: Active; Price: 0.07; Series: SMD Comm C0G; Size / Dimension: 0.039" L x 0.020" W (1.00mm x 0.50mm); Supplier 1: DigiKey; Supplier Part Number 1: 399-14436-1-ND; Thickness (Max): 0.022" (0.55mm); Voltage - Rated: 16V
footprint CAP 0402_1005
pins: 1, 2

## C0402C229C5GACTU
designator C?, comment 2.2pF
CAP CER 2.2PF 50V C0G/NP0 0402; Part Number: C0402C229C5GACTU; Manufacturer: KEMET; Temperature Coefficient: C0G, NP0; Tolerance: ±0.25pF; Value: 2.2pF; Applications: General Purpose; Capacitance: 2.2pF; ComponentLink1Description: Datasheet; ComponentLink1URL: https://api.kemet.com/component-edge/download/datasheet/C0402C229C5GACTU.pdf; ComponentLink2Description: DigiKey Link; ComponentLink2URL: http://digikey.com/product-detail/en/kemet/C0402C229C5GACTU/399-7782-1-ND/3471505; Device Package: 0402 (1005 Metric); Features: Low ESL; LastUpdated: 9/2/2020 1:02:09 AM; Lifecycle Status: Active; Minimum Order: 1; Mounting Type: Surface Mount, MLCC; Operating Temperature: -55°C ~ 125°C; Package / Case: 0402 (1005 Metric); Packaging: TapeAndReel; PartId: 8507; Part Status: Active; Price: 0.02; Series: SMD Comm C0G; Size / Dimension: 0.039" L x 0.020" W (1.00mm x 0.50mm); Supplier 1: DigiKey; Supplier Part Number 1: 399-7782-1-ND; Thickness (Max): 0.022" (0.55mm); Voltage - Rated: 50V
footprint CAP 0402_1005
pins: 1, 2

## C0402C229D3GAC7867
designator C?, comment 2.2pF
CAP CER 2.2PF 25V NP0 0402; Part Number: C0402C229D3GAC7867; Manufacturer: KEMET; Temperature Coefficient: C0G, NP0; Tolerance: ±0.5pF; Value: 2.2pF; Applications: General Purpose; Capacitance: 2.2pF; ComponentLink1Description: Datasheet; ComponentLink1URL: https://api.kemet.com/component-edge/download/datasheet/C0402C229D3GACTU.pdf; ComponentLink2Description: DigiKey Link; ComponentLink2URL: http://digikey.com/product-detail/en/kemet/C0402C229D3GAC7867/399-15312-1-ND/7386710; Device Package: 0402 (1005 Metric); Features: Low ESL; LastUpdated: 9/2/2020 1:01:21 AM; Lifecycle Status: Active; Minimum Order: 1; Mounting Type: Surface Mount, MLCC; Operating Temperature: -55°C ~ 125°C; Package / Case: 0402 (1005 Metric); Packaging: TapeAndReel; PartId: 13202; Part Status: Active; Price: 0.07; Series: SMD Comm C0G; Size / Dimension: 0.039" L x 0.020" W (1.00mm x 0.50mm); Supplier 1: DigiKey; Supplier Part Number 1: 399-15312-1-ND; Thickness (Max): 0.022" (0.55mm); Voltage - Rated: 25V
footprint CAP 0402_1005
pins: 1, 2

## C0402C229D5GACAUTO
designator C?, comment 2.2pF
CAP CER 2.2PF 50V C0G/NP0 0402; Part Number: C0402C229D5GACAUTO; Manufacturer: KEMET; Temperature Coefficient: C0G, NP0; Tolerance: ±0.5pF; Value: 2.2pF; Applications: Automotive; Capacitance: 2.2pF; ComponentLink1Description: Datasheet; ComponentLink1URL: https://api.kemet.com/component-edge/download/datasheet/C0402C229D5GACAUTO.pdf; ComponentLink2Description: DigiKey Link; ComponentLink2URL: http://digikey.com/product-detail/en/kemet/C0402C229D5GACAUTO/399-15915-1-ND/7516415; Device Package: 0402 (1005 Metric); Features: Low ESL; LastUpdated: 9/2/2020 1:01:46 AM; Lifecycle Status: Active; Minimum Order: 1; Mounting Type: Surface Mount, MLCC; Operating Temperature: -55°C ~ 125°C; Package / Case: 0402 (1005 Metric); Packaging: TapeAndReel; PartId: 12326; Part Status: Active; Price: 0.07; Ratings: AEC-Q200; Series: SMD Auto C0G; Size / Dimension: 0.039" L x 0.020" W (1.00mm x 0.50mm); Supplier 1: DigiKey; Supplier Part Number 1: 399-15915-1-ND; Thickness (Max): 0.022" (0.55mm); Voltage - Rated: 50V
footprint CAP 0402_1005
pins: 1, 2

## C0402C229D8GAC7867
designator C?, comment 2.2pF
CAP CER 2.2PF 10V C0G/NP0 0402; Part Number: C0402C229D8GAC7867; Manufacturer: KEMET; Temperature Coefficient: C0G, NP0; Tolerance: ±0.5pF; Value: 2.2pF; Applications: General Purpose; Capacitance: 2.2pF; ComponentLink1Description: Datasheet; ComponentLink1URL: https://api.kemet.com/component-edge/download/datasheet/C0402C229D8GAC7867.pdf; ComponentLink2Description: DigiKey Link; ComponentLink2URL: http://digikey.com/product-detail/en/kemet/C0402C229D8GAC7867/399-14898-1-ND/7382447; Device Package: 0402 (1005 Metric); Features: Low ESL; LastUpdated: 9/2/2020 1:02:12 AM; Lifecycle Status: Active; Minimum Order: 1; Mounting Type: Surface Mount, MLCC; Operating Temperature: -55°C ~ 125°C; Package / Case: 0402 (1005 Metric); Packaging: TapeAndReel; PartId: 7226; Part Status: Active; Price: 0.07; Series: SMD Comm C0G; Size / Dimension: 0.039" L x 0.020" W (1.00mm x 0.50mm); Supplier 1: DigiKey; Supplier Part Number 1: 399-14898-1-ND; Thickness (Max): 0.022" (0.55mm); Voltage - Rated: 10V
footprint CAP 0402_1005
pins: 1, 2

## C0402C240J3GACTU
designator C?, comment 24pF
CAP CER 24PF 25V C0G/NP0 0402; Part Number: C0402C240J3GACTU; Manufacturer: KEMET; Temperature Coefficient: C0G, NP0; Tolerance: ±5%; Value: 24pF; Applications: General Purpose; Capacitance: 24pF; ComponentLink1Description: Datasheet; ComponentLink1URL: https://api.kemet.com/component-edge/download/datasheet/C0402C240J3GACTU.pdf; ComponentLink2Description: DigiKey Link; ComponentLink2URL: http://digikey.com/product-detail/en/kemet/C0402C240J3GACTU/399-8958-1-ND/3522475; Device Package: 0402 (1005 Metric); Features: Low ESL; LastUpdated: 9/2/2020 1:02:07 AM; Lifecycle Status: Active; Minimum Order: 1; Mounting Type: Surface Mount, MLCC; Operating Temperature: -55°C ~ 125°C; Package / Case: 0402 (1005 Metric); Packaging: TapeAndReel; PartId: 9695; Part Status: Active; Price: 0.08; Series: SMD Comm C0G; Size / Dimension: 0.039" L x 0.020" W (1.00mm x 0.50mm); Supplier 1: DigiKey; Supplier Part Number 1: 399-8958-1-ND; Thickness (Max): 0.022" (0.55mm); Voltage - Rated: 25V
footprint CAP 0402_1005
pins: 1, 2

## C0402C240J5GACTU
designator C?, comment 24pF
CAP CER 24PF 50V C0G/NP0 0402; Part Number: C0402C240J5GACTU; Manufacturer: KEMET; Temperature Coefficient: C0G, NP0; Tolerance: ±5%; Value: 24pF; Applications: General Purpose; Capacitance: 24pF; ComponentLink1Description: Datasheet; ComponentLink1URL: https://api.kemet.com/component-edge/download/datasheet/C0402C240J5GACTU.pdf; ComponentLink2Description: DigiKey Link; ComponentLink2URL: http://digikey.com/product-detail/en/kemet/C0402C240J5GACTU/399-7783-1-ND/3471506; Device Package: 0402 (1005 Metric); Features: Low ESL; LastUpdated: 9/2/2020 1:02:07 AM; Lifecycle Status: Active; Minimum Order: 1; Mounting Type: Surface Mount, MLCC; Operating Temperature: -55°C ~ 125°C; Package / Case: 0402 (1005 Metric); Packaging: TapeAndReel; PartId: 9689; Part Status: Active; Price: 0.08; Series: SMD Comm C0G; Size / Dimension: 0.039" L x 0.020" W (1.00mm x 0.50mm); Supplier 1: DigiKey; Supplier Part Number 1: 399-7783-1-ND; Thickness (Max): 0.022" (0.55mm); Voltage - Rated: 50V
footprint CAP 0402_1005
pins: 1, 2

## C0402C241J3GAC7867
designator C?, comment 240pF
CAP CER 240PF 25V C0G/NP0 0402; Part Number: C0402C241J3GAC7867; Manufacturer: KEMET; Temperature Coefficient: C0G, NP0; Tolerance: ±5%; Value: 240pF; Applications: General Purpose; Capacitance: 240pF; ComponentLink1Description: Datasheet; ComponentLink1URL: https://api.kemet.com/component-edge/download/datasheet/C0402C241J3GAC7867.pdf; ComponentLink2Description: DigiKey Link; ComponentLink2URL: http://digikey.com/product-detail/en/kemet/C0402C241J3GAC7867/399-14899-1-ND/7382448; Device Package: 0402 (1005 Metric); Features: Low ESL; LastUpdated: 9/2/2020 1:02:22 AM; Lifecycle Status: Active; Minimum Order: 1; Mounting Type: Surface Mount, MLCC; Operating Temperature: -55°C ~ 125°C; Package / Case: 0402 (1005 Metric); Packaging: TapeAndReel; PartId: 2544; Part Status: Active; Price: 0.12; Series: SMD Comm C0G; Size / Dimension: 0.039" L x 0.020" W (1.00mm x 0.50mm); Supplier 1: DigiKey; Supplier Part Number 1: 399-14899-1-ND; Thickness (Max): 0.022" (0.55mm); Voltage - Rated: 25V
footprint CAP 0402_1005
pins: 1, 2

## C0402C241J5GAC7867
designator C?, comment 240pF
CAP CER 240PF 50V C0G/NP0 0402; Part Number: C0402C241J5GAC7867; Manufacturer: KEMET; Temperature Coefficient: C0G, NP0; Tolerance: ±5%; Value: 240pF; Applications: General Purpose; Capacitance: 240pF; ComponentLink1Description: Datasheet; ComponentLink1URL: https://api.kemet.com/component-edge/download/datasheet/C0402C241J5GAC7867.pdf; ComponentLink2Description: DigiKey Link; ComponentLink2URL: http://digikey.com/product-detail/en/kemet/C0402C241J5GAC7867/399-14900-1-ND/7382449; Device Package: 0402 (1005 Metric); Features: Low ESL; LastUpdated: 9/2/2020 1:01:30 AM; Lifecycle Status: Active; Minimum Order: 1; Mounting Type: Surface Mount, MLCC; Operating Temperature: -55°C ~ 125°C; Package / Case: 0402 (1005 Metric); Packaging: TapeAndReel; PartId: 12869; Part Status: Active; Price: 0.11; Series: SMD Comm C0G; Size / Dimension: 0.039" L x 0.020" W (1.00mm x 0.50mm); Supplier 1: DigiKey; Supplier Part Number 1: 399-14900-1-ND; Thickness (Max): 0.022" (0.55mm); Voltage - Rated: 50V
footprint CAP 0402_1005
pins: 1, 2

## C0402C249C5GACTU
designator C?, comment 2.4pF
CAP CER 2.4PF 50V C0G/NP0 0402; Part Number: C0402C249C5GACTU; Manufacturer: KEMET; Temperature Coefficient: C0G, NP0; Tolerance: ±0.25pF; Value: 2.4pF; Applications: General Purpose; Capacitance: 2.4pF; ComponentLink1Description: Datasheet; ComponentLink1URL: https://api.kemet.com/component-edge/download/datasheet/C0402C249C5GACTU.pdf; ComponentLink2Description: DigiKey Link; ComponentLink2URL: http://digikey.com/product-detail/en/kemet/C0402C249C5GACTU/399-8959-1-ND/3522476; Device Package: 0402 (1005 Metric); Features: Low ESL; LastUpdated: 9/2/2020 1:02:03 AM; Lifecycle Status: Active; Minimum Order: 1; Mounting Type: Surface Mount, MLCC; Operating Temperature: -55°C ~ 125°C; Package / Case: 0402 (1005 Metric); Packaging: TapeAndReel; PartId: 11179; Part Status: Active; Price: 0.07; Series: SMD Comm C0G; Size / Dimension: 0.039" L x 0.020" W (1.00mm x 0.50mm); Supplier 1: DigiKey; Supplier Part Number 1: 399-8959-1-ND; Thickness (Max): 0.022" (0.55mm); Voltage - Rated: 50V
footprint CAP 0402_1005
pins: 1, 2

## C0402C270F5GACTU
designator C?, comment 27pF
CAP CER 27PF 50V C0G/NP0 0402; Part Number: C0402C270F5GACTU; Manufacturer: KEMET; Temperature Coefficient: C0G, NP0; Tolerance: ±1%; Value: 27pF; Applications: General Purpose; Capacitance: 27pF; ComponentLink1Description: Datasheet; ComponentLink1URL: https://api.kemet.com/component-edge/download/datasheet/C0402C270F5GACTU.pdf; ComponentLink2Description: DigiKey Link; ComponentLink2URL: http://digikey.com/product-detail/en/kemet/C0402C270F5GACTU/399-11120-1-ND/4357789; Device Package: 0402 (1005 Metric); Features: Low ESL; LastUpdated: 9/2/2020 1:02:13 AM; Lifecycle Status: Active; Minimum Order: 1; Mounting Type: Surface Mount, MLCC; Operating Temperature: -55°C ~ 125°C; Package / Case: 0402 (1005 Metric); Packaging: TapeAndReel; PartId: 6821; Part Status: Active; Price: 0.09; Series: SMD Comm C0G; Size / Dimension: 0.039" L x 0.020" W (1.00mm x 0.50mm); Supplier 1: DigiKey; Supplier Part Number 1: 399-11120-1-ND; Thickness (Max): 0.022" (0.55mm); Voltage - Rated: 50V
footprint CAP 0402_1005
pins: 1, 2

## C0402C270J3GAC7867
designator C?, comment 27pF
CAP CER 27PF 25V NP0 0402; Part Number: C0402C270J3GAC7867; Manufacturer: KEMET; Temperature Coefficient: C0G, NP0; Tolerance: ±5%; Value: 27pF; Applications: General Purpose; Capacitance: 27pF; ComponentLink1Description: Datasheet; ComponentLink1URL: https://api.kemet.com/component-edge/download/datasheet/C0402C270J3GACTU.pdf; ComponentLink2Description: DigiKey Link; ComponentLink2URL: http://digikey.com/product-detail/en/kemet/C0402C270J3GAC7867/399-14437-1-ND/7103729; Device Package: 0402 (1005 Metric); Features: Low ESL; LastUpdated: 9/2/2020 1:02:25 AM; Lifecycle Status: Active; Minimum Order: 1; Mounting Type: Surface Mount, MLCC; Operating Temperature: -55°C ~ 125°C; Package / Case: 0402 (1005 Metric); Packaging: TapeAndReel; PartId: 1740; Part Status: Active; Price: 0.08; Series: SMD Comm C0G; Size / Dimension: 0.039" L x 0.020" W (1.00mm x 0.50mm); Supplier 1: DigiKey; Supplier Part Number 1: 399-14437-1-ND; Thickness (Max): 0.022" (0.55mm); Voltage - Rated: 25V
footprint CAP 0402_1005
pins: 1, 2

## C0402C270J5GACAUTO
designator C?, comment 27pF
CAP CER 27PF 50V C0G/NP0 0402; Part Number: C0402C270J5GACAUTO; Manufacturer: KEMET; Temperature Coefficient: C0G, NP0; Tolerance: ±5%; Value: 27pF; Applications: Automotive; Capacitance: 27pF; ComponentLink1Description: Datasheet; ComponentLink1URL: https://api.kemet.com/component-edge/download/datasheet/C0402C270J5GACAUTO.pdf; ComponentLink2Description: DigiKey Link; ComponentLink2URL: http://digikey.com/product-detail/en/kemet/C0402C270J5GACAUTO/399-15841-1-ND/7516341; Device Package: 0402 (1005 Metric); Features: Low ESL; LastUpdated: 9/2/2020 1:02:22 AM; Lifecycle Status: Active; Minimum Order: 1; Mounting Type: Surface Mount, MLCC; Operating Temperature: -55°C ~ 125°C; Package / Case: 0402 (1005 Metric); Packaging: TapeAndReel; PartId: 2940; Part Status: Active; Price: 0.01; Ratings: AEC-Q200; Series: SMD Auto C0G; Size / Dimension: 0.039" L x 0.020" W (1.00mm x 0.50mm); Supplier 1: DigiKey; Supplier Part Number 1: 399-15841-1-ND; Thickness (Max): 0.022" (0.55mm); Voltage - Rated: 50V
footprint CAP 0402_1005
pins: 1, 2

## C0402C270J5GACTU
designator C?, comment 27pF
CAP CER 27PF 50V C0G/NP0 0402; Part Number: C0402C270J5GACTU; Manufacturer: KEMET; Temperature Coefficient: C0G, NP0; Tolerance: ±5%; Value: 27pF; Applications: General Purpose; Capacitance: 27pF; ComponentLink1Description: Datasheet; ComponentLink1URL: https://api.kemet.com/component-edge/download/datasheet/C0402C270J5GACTU.pdf; ComponentLink2Description: DigiKey Link; ComponentLink2URL: http://digikey.com/product-detail/en/kemet/C0402C270J5GACTU/399-1016-1-ND/411291; Device Package: 0402 (1005 Metric); Features: Low ESL; LastUpdated: 9/2/2020 1:01:41 AM; Lifecycle Status: Active; Minimum Order: 1; Mounting Type: Surface Mount, MLCC; Operating Temperature: -55°C ~ 125°C; Package / Case: 0402 (1005 Metric); Packaging: TapeAndReel; PartId: 12502; Part Status: Active; Price: 0.01; Series: SMD Comm C0G; Size / Dimension: 0.039" L x 0.020" W (1.00mm x 0.50mm); Supplier 1: DigiKey; Supplier Part Number 1: 399-1016-1-ND; Thickness (Max): 0.022" (0.55mm); Voltage - Rated: 50V
footprint CAP 0402_1005
pins: 1, 2